# EAGLE library part TVS_ESD_4CH_10P_PASS_THRU (library !GPLIB_ACTIVE)
ESD and Surge protection diodes TVS 4 line bi-directional DFN2510-10
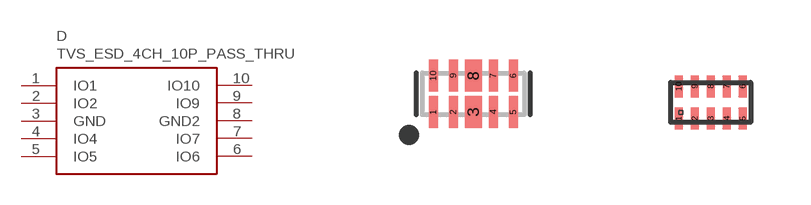
[diagram p82: symbol with the pads of DFN2510-10; footprints DFN2510-10, UQFN1.9X_10L]

Designator prefix D

## TVS_ESD_4CH_10P_PASS_THRU_BTRD10A03  [DFN2510-10]
1  IO1
2  IO2
3  GND  pwr
4  IO4
5  IO5
6  IO6
7  IO7
8  GND2  pwr
9  IO9
10  IO10

## TVS_ESD_4CH_10P_PASS_THRU_HSP0514N10  [UQFN1.9X_10L]
Pads as for DFN2510-10

## TVS_ESD_4CH_10P_PASS_THRU_ESD0524P  [DFN2510-10]
Pads as for DFN2510-10

## Footprint DFN2510-10 (pad centres in mm)
10-SON (DFN), 0.50 mm pitch, 2.50 X 1.00 X 0.55 mm body DFN2510-10
smd 0.224 x 0.793: 1 -1,-0.455; 2 -0.5,-0.455; 4 0.5,-0.455; 5 1,-0.455; 6 1,0.455; 7 0.5,0.455; 9 -0.5,0.455; 10 -1,0.455
smd 0.424 x 0.793: 3 0,-0.455; 8 0,0.455

## Footprint UQFN1.9X_10L (pad centres in mm)
smd 0.2 x 0.56: 1 -0.8,-0.4; 2 -0.4,-0.4; 3 0,-0.4; 4 0.4,-0.4; 5 0.8,-0.4; 6 0.8,0.4; 7 0.4,0.4; 8 0,0.4; 9 -0.4,0.4; 10 -0.8,0.4